# Altium schematic symbol library capacitor.SchLib: 1 symbol
Pins are listed as number, name and electrical type; pins without a type are passive.

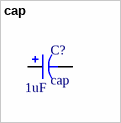
[diagram p0: symbol cap]

## cap
designator C?  value 1uF
footprint capacitor
pins: 1, 2